# Altium footprint library 5040500891.PcbLib: 1 footprints
Each footprint in its own frame and in the unit in brackets; x right, y up, seen from the top. Pads: shape width x height; smd on the part's side, far side on the other; paste and mask are expansions set on the pad; w line width, h text height; cw(c..) or ccw(c..) is an arc to the next point about the centre after c.
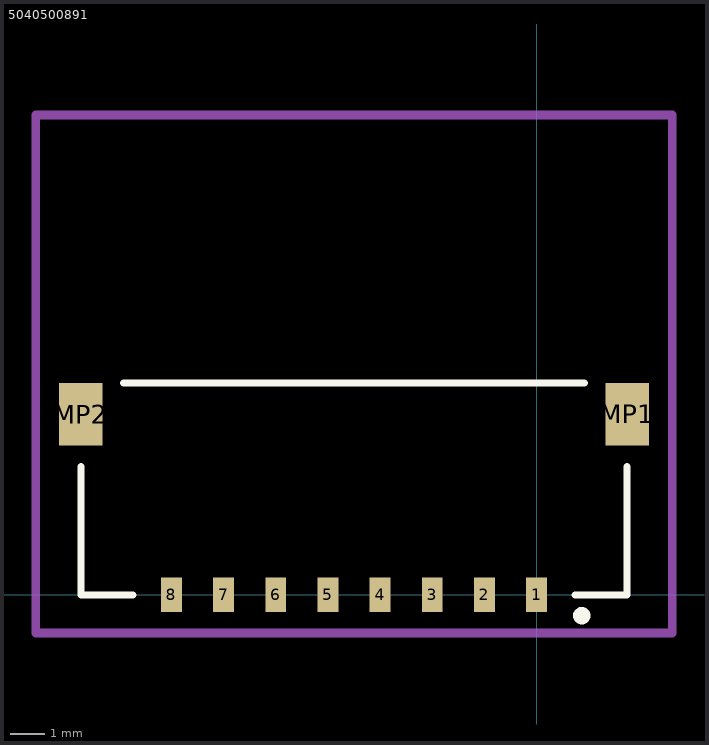
[diagram p0: the footprint, top view; thin cyan lines are the x and y axes]

## 5040500891 [mm]
pads (10):
  rect 0.6x1 smd: 1(0,0) 2(-1.5,0) 3(-3,0) 4(-4.5,0) 5(-6,0) 6(-7.5,0) 7(-9,0) 8(-10.5,0)
  rect 1.25x1.8 smd: MP1(2.605,5.19) MP2(-13.105,5.19)
Top Overlay:
  circle w0.25: c1.3,-0.6 r0.125
  lines w0.2: -13.105,3.69 -13.105,0 -11.6,0 ; -11.88,6.09 1.38,6.09 ; 1.1,0 2.605,0 2.605,3.69
Mechanical 15:
  lines w0.254: -14.4,-1.1 3.9,-1.1 3.9,13.8 -14.4,13.8 -14.4,-1.1
3D body "5040500891.stp": height 1.98, standoff -0.02, extent -13.525,-0.34 3.025,6.1